# Altium integrated library Amplificadores operacionales.IntLib: 3 symbols
Pins are listed as number, name and electrical type; pins without a type are passive.

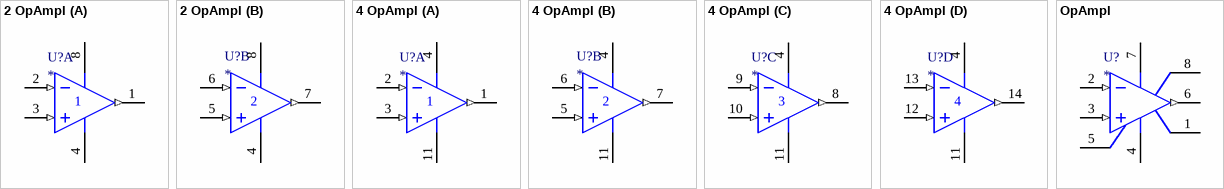
[diagram p0: symbols 2 OpAmpl to OpAmpl]

## 2 OpAmpl
designator U?
footprint SO-8 Wide
part A pins: 1 OUT (out), 2 IN- (in), 3 IN+ (in), 4 V- (power), 8 V+ (power)
part B pins: 4 V- (power), 5 IN+ (in), 6 IN- (in), 7 OUT (out), 8 V+ (power)

## 4 OpAmpl
designator U?
footprint SOP65P640X135-14N
part A pins: 1 OUT (out), 2 IN- (in), 3 IN+ (in), 4 V+ (power), 11 V- (power)
part B pins: 4 V+ (power), 5 IN+ (in), 6 IN- (in), 7 OUT (out), 11 V- (power)
part C pins: 4 V+ (power), 8 OUT (out), 9 IN- (in), 10 IN+ (in), 11 V- (power)
part D pins: 4 V+ (power), 11 V- (power), 12 IN+ (in), 13 IN- (in), 14 OUT (out)

## OpAmpl
designator U?
footprint DIP-8
pins: 1 OS NUL, 2 IN- (in), 3 IN+ (in), 4 V- (power), 5 OS NUL, 6 OUT (out), 7 V+ (power), 8 TAB